# EAGLE library part UJ32-C-H-G-DSMT-3-P24-TR (library UJ32-C-H-G-DSMT-3-P24-TR)
UJ32-C-H-G-DSMT-3-P24-TR - Type C, USB 3.2 Gen 1, 5 Gbps, 48 Vdc, 5 A, Horizontal, Hybrid Mount Mounting Style, Hybrid MountContact Pin Type, Gold Plated 3 in, 24 Pins, USB Receptacle Source: Datasheet <https://www.sameskydevices.com/product/resource/UJ32-C-H-G-DSMT-3-P24-TR.pdf>
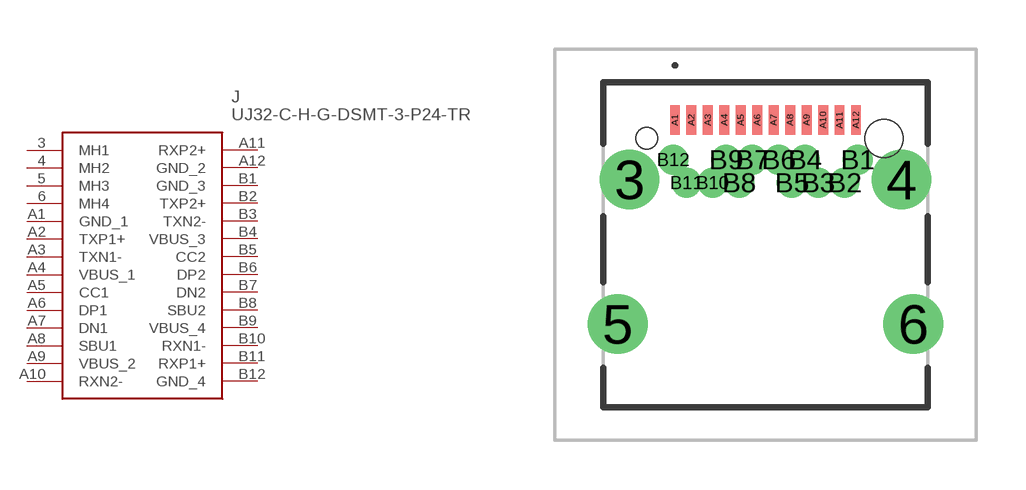
[diagram p0: symbol with the pads of UJ32CHGDSMT3P24TR; footprint UJ32CHGDSMT3P24TR]

Designator prefix J

## UJ32-C-H-G-DSMT-3-P24-TR (Description: UJ32-C-H-G-DSMT-3-P24-TR - Type C, USB 3.2 Gen 1, 5 Gbps, 48 Vdc, 5 A, Horizontal, Hybrid Mount Mounting Style, Hybrid MountContact Pin Type, Gold Plated 3 in, 24 Pins, USB Receptacle; Height: 3.36mm; Manufacturer_Name: Same Sky; Manufacturer_Part_Number: UJ32-C-H-G-DSMT-3-P24-TR; Mouser_Part_Number: 179-UJ32CHGDST3P24TR; Mouser_Price-Stock: https://www.mouser.co.uk/ProductDetail/Same-Sky/UJ32-C-H-G-DSMT-3-P24-TR?qs=IKkN%2F947nfBrW9%252BSQhjOYA%3D%3D)  [UJ32CHGDSMT3P24TR]
3  MH1
4  MH2
5  MH3
6  MH4
A1  GND_1
A2  TXP1+
A3  TXN1-
A4  VBUS_1
A5  CC1
A6  DP1
A7  DN1
A8  SBU1
A9  VBUS_2
A10  RXN2-
A11  RXP2+
A12  GND_2
B1  GND_3
B2  TXP2+
B3  TXN2-
B4  VBUS_3
B5  CC2
B6  DP2
B7  DN2
B8  SBU2
B9  VBUS_4
B10  RXN1-
B11  RXP1+
B12  GND_4

## Footprint UJ32CHGDSMT3P24TR (pad centres in mm)
UJ32-C-H-G-DSMT-3-P24-TR-1
drill 1.21 pad 1.815: 3 -4.13,1.985; 4 4.13,1.985; 5 -4.49,-2.405; 6 4.49,-2.405
smd 0.3 x 0.9: A1 -2.75,3.795; A2 -2.25,3.795; A3 -1.75,3.795; A4 -1.25,3.795; A5 -0.75,3.795; A6 -0.25,3.795; A7 0.25,3.795; A8 0.75,3.795; A9 1.25,3.795; A10 1.75,3.795; A11 2.25,3.795; A12 2.75,3.795
drill 0.4 pad 0.5: B1 2.8,2.585; B2 2.4,1.885; B3 1.6,1.885; B4 1.2,2.585; B5 0.8,1.885; B6 0.4,2.585; B7 -0.4,2.585; B8 -0.8,1.885; B9 -1.2,2.585; B10 -1.6,1.885; B11 -2.4,1.885; B12 -2.8,2.585
hole 0.65 at -3.6,3.235
hole 1.15 at 3.6,3.235